# Altium schematic symbol library Pushbutton - Low Profile.Schlib: 1 symbol
Pins are listed as number, name and electrical type; pins without a type are passive.

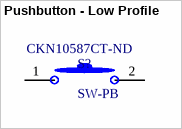
[diagram p0: symbol Pushbutton - Low Profile]

## Pushbutton - Low Profile
designator S?, comment SW-PB  Supplier Part Number 1: CKN10587CT-ND
Schematic symbol for a generic 2-pin pushbutton, OFF-mom.; Supplier 1: Digi-Key
footprint PTS830GM140 SMTR LFS - Pushbutton (Low profile pushbutton)
pins: 1, 2